# Altium footprint library TMC5161-HH.PcbLib: 1 footprints
Each footprint in its own frame and in the unit in brackets; x right, y up, seen from the top. Pads: shape width x height; smd on the part's side, far side on the other; paste and mask are expansions set on the pad; w line width, h text height; cw(c..) or ccw(c..) is an arc to the next point about the centre after c.
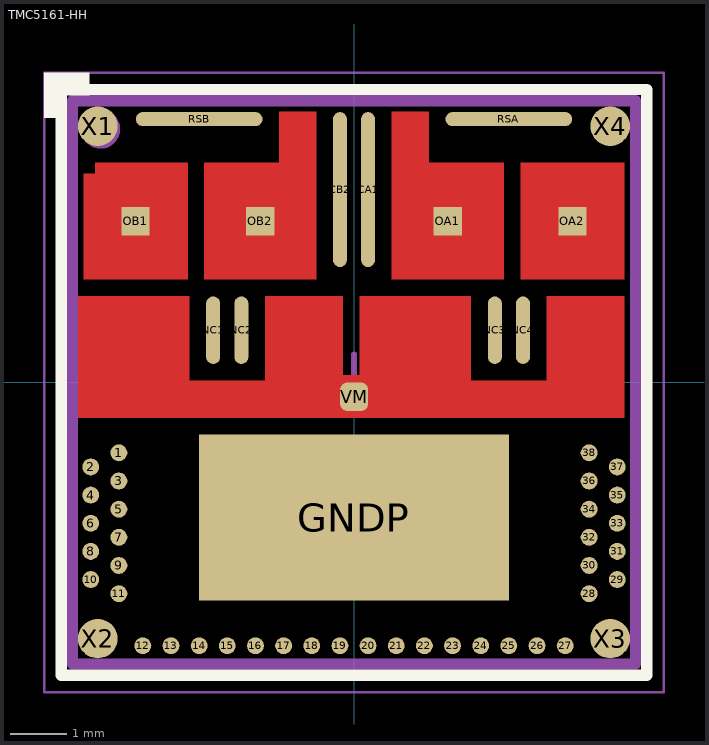
[diagram p0: the footprint, top view; thin cyan lines are the x and y axes]

## TMC5161-HH [mm]
height 0.85
pads (56):
  round 0.3 smd: 1(-4.175,-1.25) 2(-4.675,-1.5) 3(-4.175,-1.75) 4(-4.675,-2) 5(-4.175,-2.25) 6(-4.675,-2.5) 7(-4.175,-2.75) 8(-4.675,-3) 9(-4.175,-3.25) 10(-4.675,-3.5) 11(-4.175,-3.75) 12(-3.75,-4.675) 13(-3.25,-4.675) 14(-2.75,-4.675) 15(-2.25,-4.675) 16(-1.75,-4.675) 17(-1.25,-4.675) 18(-0.75,-4.675) 19(-0.25,-4.675) 20(0.25,-4.675) 21(0.75,-4.675) 22(1.25,-4.675) 23(1.75,-4.675) 24(2.25,-4.675) 25(2.75,-4.675) 26(3.25,-4.675) 27(3.75,-4.675) 28(4.175,-3.75) 29(4.675,-3.5) 30(4.175,-3.25) 31(4.675,-3) 32(4.175,-2.75) 33(4.675,-2.5) 34(4.175,-2.25) 35(4.675,-2) 36(4.175,-1.75) 37(4.675,-1.5) 38(4.175,-1.25)
  oval 0.25x2.75 smd: CA1(0.25,3.425) CB2(-0.25,3.425)
  rect 5.5x2.95 smd paste-2: GNDP(0,-2.4)
  oval 0.25x1.2 smd: NC1(-2.5,0.928) NC2(-2,0.928) NC3(2.5,0.928) NC4(3.001,0.928)
  rect 0.5x0.5 smd paste-1 mask-1: OA1(1.665,2.863) OA2(3.877,2.863) OB1(-3.878,2.863) OB2(-1.665,2.863)
  oval 2.25x0.25 smd: RSA(2.75,4.675) RSB(-2.75,4.675)
  rrect50% 0.5x0.5 smd paste-1 mask-1: VM(0.003,-0.254)
  round 0.7 smd paste-0.075: X1(-4.55,4.55) X2(-4.55,-4.55) X3(4.55,-4.55) X4(4.55,4.55)
Top Layer:
  region: 2.958,1.829 2.958,3.902 4.802,3.902 4.802,1.829
  region: 0.673,1.829 0.673,4.802 1.326,4.802 1.326,3.902 2.656,3.902 2.656,1.829
  region: -4.797,1.829 -4.797,3.702 -4.597,3.702 -4.597,3.902 -2.953,3.902 -2.953,1.829
  region: -2.657,1.829 -2.657,3.902 -1.327,3.902 -1.327,4.802 -0.674,4.802 -0.674,1.829
  region: -4.899,-0.625 -4.899,1.526 -2.923,1.526 -2.923,0.027 -1.575,0.027 -1.575,1.526 -0.197,1.526 -0.197,0.124 0.099,0.124 0.099,1.526 2.076,1.526 2.076,0.027 3.424,0.027 3.424,1.526 4.802,1.526 4.802,-0.625
Top Overlay:
  region: -4.7,5.5 -4.7,5.1 -5.1,5.1 -5.1,4.7 -5.5,4.7 -5.5,5.5
  lines w0.2: -5.2,-5.2 -5.2,5.2 5.2,5.2 5.2,-5.2 -5.2,-5.2
Top Paste:
  region: 0.875,3.65 0.875,2.05 2.475,2.05 2.475,3.65
  region: -2.475,3.65 -2.475,2.05 -0.875,2.05 -0.875,3.65
  region: 3.1,3.6 3.1,2.1 4.7,2.1 4.7,3.6
  region: -4.7,3.6 -4.7,2.1 -3.1,2.1 -3.1,3.6
  rectangle: -2.7,-0.55 -1.7,-0.05
  rectangle: 2.3,-0.55 3.3,-0.05
  rectangle: -3.7,-0.5 -3,1.4
  rectangle: -4.8,-0.5 -4.1,1.4
  region: 2.7,-3.8 2.7,-2.6 1,-2.6 1,-3.8
  region: 2.7,-2.2 2.7,-1 1,-1 1,-2.2
  region: 0.6,-1.55 -0.6,-1.55 -0.6,-3.25 0.6,-3.25
  region: -2.7,-1 -2.7,-2.2 -1,-2.2 -1,-1
  region: -2.7,-2.6 -2.7,-3.8 -1,-3.8 -1,-2.6
  rectangle: -1.4,-0.5 -0.4,1.4
  rectangle: 0.2,-0.5 0.9,1.4
  rectangle: 1.3,-0.5 2,1.4
  rectangle: 3.6,-0.5 4.6,1.4
  region: -1.3,4.65 -1.3,4.05 -0.7,4.05 -0.7,4.65
  region: 0.7,4.65 0.7,4.05 1.3,4.05 1.3,4.65
Top Solder:
  region: -4.95,-0.675 -4.95,1.575 -2.875,1.575 -2.875,0.07 -1.623,0.07 -1.623,1.575 -0.15,1.575 -0.15,0.175 0.05,0.175 0.05,1.575 2.125,1.575 2.125,0.07 3.375,0.07 3.375,1.575 4.85,1.575 4.85,-0.675
  region: -2.725,1.775 -2.725,3.95 -1.375,3.95 -1.375,4.85 -0.625,4.85 -0.625,1.775
  region: -4.85,1.775 -4.85,3.75 -4.65,3.75 -4.65,3.95 -2.9,3.95 -2.9,1.775
  region: 0.625,1.775 0.625,4.85 1.375,4.85 1.375,3.95 2.704,3.95 2.704,1.775
  region: 2.91,1.775 2.91,3.95 4.85,3.95 4.85,1.775
Mechanical 13:
  circle w0.25: c-4.5,4.5 r0.224
  lines w0.2: -5,-5 -5,5 5,5 5,-5 -5,-5
Mechanical 15:
  lines w0.05: -5.5,-5.5 -5.5,5.5 5.5,5.5 5.5,-5.5 -5.5,-5.5
  lines w0.1: -0.5,0 0.5,0 ; 0,-0.5 0,0.5
3D body: height 0.85, standoff 0, extent -5,-5 5,5
3D body: height 0.85, standoff 0.1, extent -4.497,3.901 -3.9,4.5